# Altium schematic symbol library Schlib1.SchLib: 1 symbol
Pins are listed as number, name and electrical type; pins without a type are passive.

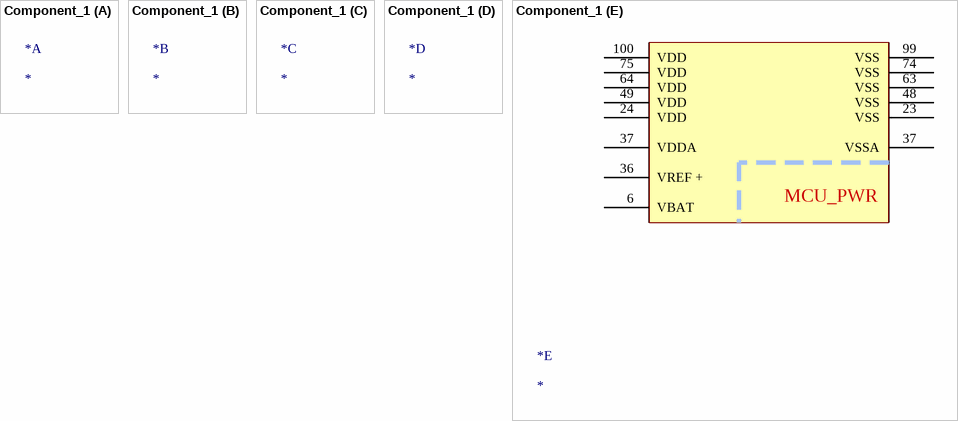
[diagram p0: symbol Component_1]

## Component_1
designator *
part E pins: 6 VBAT, 23 VSS, 24 VDD, 36 VREF +, 37 VDDA, 37 VSSA, 48 VSS, 49 VDD, 63 VSS, 64 VDD, 74 VSS, 75 VDD, 99 VSS, 100 VDD
part E text: MCU_PWR